# Altium integrated library FPGA PB15 Port-Plugin.IntLib: 3 symbols
Pins are listed as number, name and electrical type; pins without a type are passive.

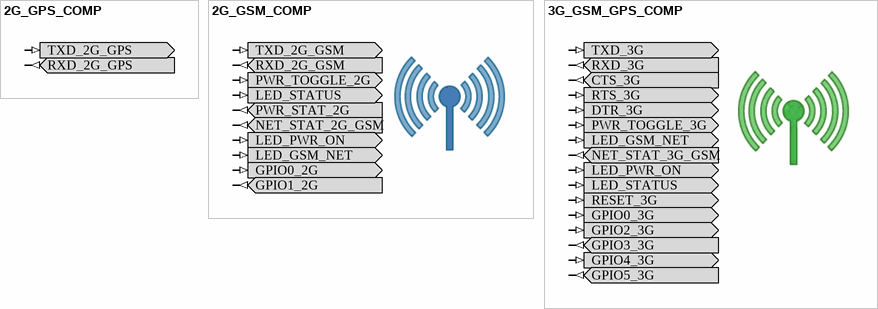
[diagram p0: symbols 2G_GPS_COMP to 3G_GSM_GPS_COMP]

## 2G_GPS_COMP
designator ?  (value not drawn)
2G GPS Component; PortComponent: True; Published: 22-Jan-2007; Publisher: Altium Limited; HelpURL: https://wiki.altium.com/display/ADOH/PB03+Resources+-+Ethernet+Port
pins: RXD_2G_GPS (out), TXD_2G_GPS (in)

## 2G_GSM_COMP
designator ?  (value not drawn)
2G GSM/GPRS Component; PortComponent: True; Published: 22-Jan-2007; Publisher: Altium Limited; HelpURL: https://wiki.altium.com/display/ADOH/PB03+Resources+-+Ethernet+Port
pins: GPIO0_2G (in), GPIO1_2G (out), LED_GSM_NET (in), LED_PWR_ON (in), LED_STATUS (in), NET_STAT_2G_GSM (out), PWR_STAT_2G (out), PWR_TOGGLE_2G (in), RXD_2G_GSM (out), TXD_2G_GSM (in)

## 3G_GSM_GPS_COMP
designator *  (value not drawn)
3G GSM/GPRS/GPS Component; PortComponent: TRUE
pins: CTS_3G (out), DTR_3G (in), GPIO0_3G (in), GPIO2_3G (in), GPIO3_3G (out), GPIO4_3G (in), GPIO5_3G (out), LED_GSM_NET (in), LED_PWR_ON (in), LED_STATUS (in), NET_STAT_3G_GSM (out), PWR_TOGGLE_3G (in), RESET_3G (in), RTS_3G (in), RXD_3G (out), TXD_3G (in)